# EAGLE library part TPS56320X (library m_vreg)
TPS56320x 4.5-V to 17-V Input, 3-A Synchronous Step-Down Voltage Regulator in SOT-23 Features TPS563201 and TPS563208 3-A Converter Integrated 95-mΩ and 57-mΩ FETs D-CAP2TM Mode Control with fast transient response Input Voltage Range: 4.5 V to 17 V Output Voltage Range: 0.76 V to 7 V Pulse-skip mode (TPS563201) or Continuous Current Mode (TPS563208) 580-kHz Switching Frequency Low Shutdown Current Less than 10 μA 2% Feedback Voltage Accuracy (25 oC) Startup from Pre-Biased Output Voltage Cycle-by-Cycle Overcurrent Limit Hiccup-mode Overcurrent Protection Non-Latch UVP and TSD Protections Fixed Soft Start: 1.0 ms Added 2016-02-18
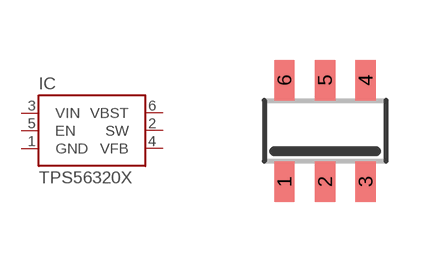
[diagram p9: symbol with the pads of SOT23-6; footprint SOT23-6]

Designator prefix IC

## TPS56320XDDC (MANUF: TI; PARTNUM: TPS563201DDCT; VALUE: TPS56320X)  [SOT23-6]
1  GND
2  SW
3  VIN
4  VFB
5  EN
6  VBST

## Footprint SOT23-6 (pad centres in mm)
smd 0.508 x 1.016: 1 -1.016,-1.27; 2 0,-1.27; 3 1.016,-1.27; 4 1.016,1.27; 5 0,1.27; 6 -1.016,1.27